# Altium footprint library AB-Amplifier.PcbLib: 13 footprints
Each footprint in its own frame and in the unit in brackets; x right, y up, seen from the top. Pads: shape width x height; smd on the part's side, far side on the other; paste and mask are expansions set on the pad; w line width, h text height; cw(c..) or ccw(c..) is an arc to the next point about the centre after c.
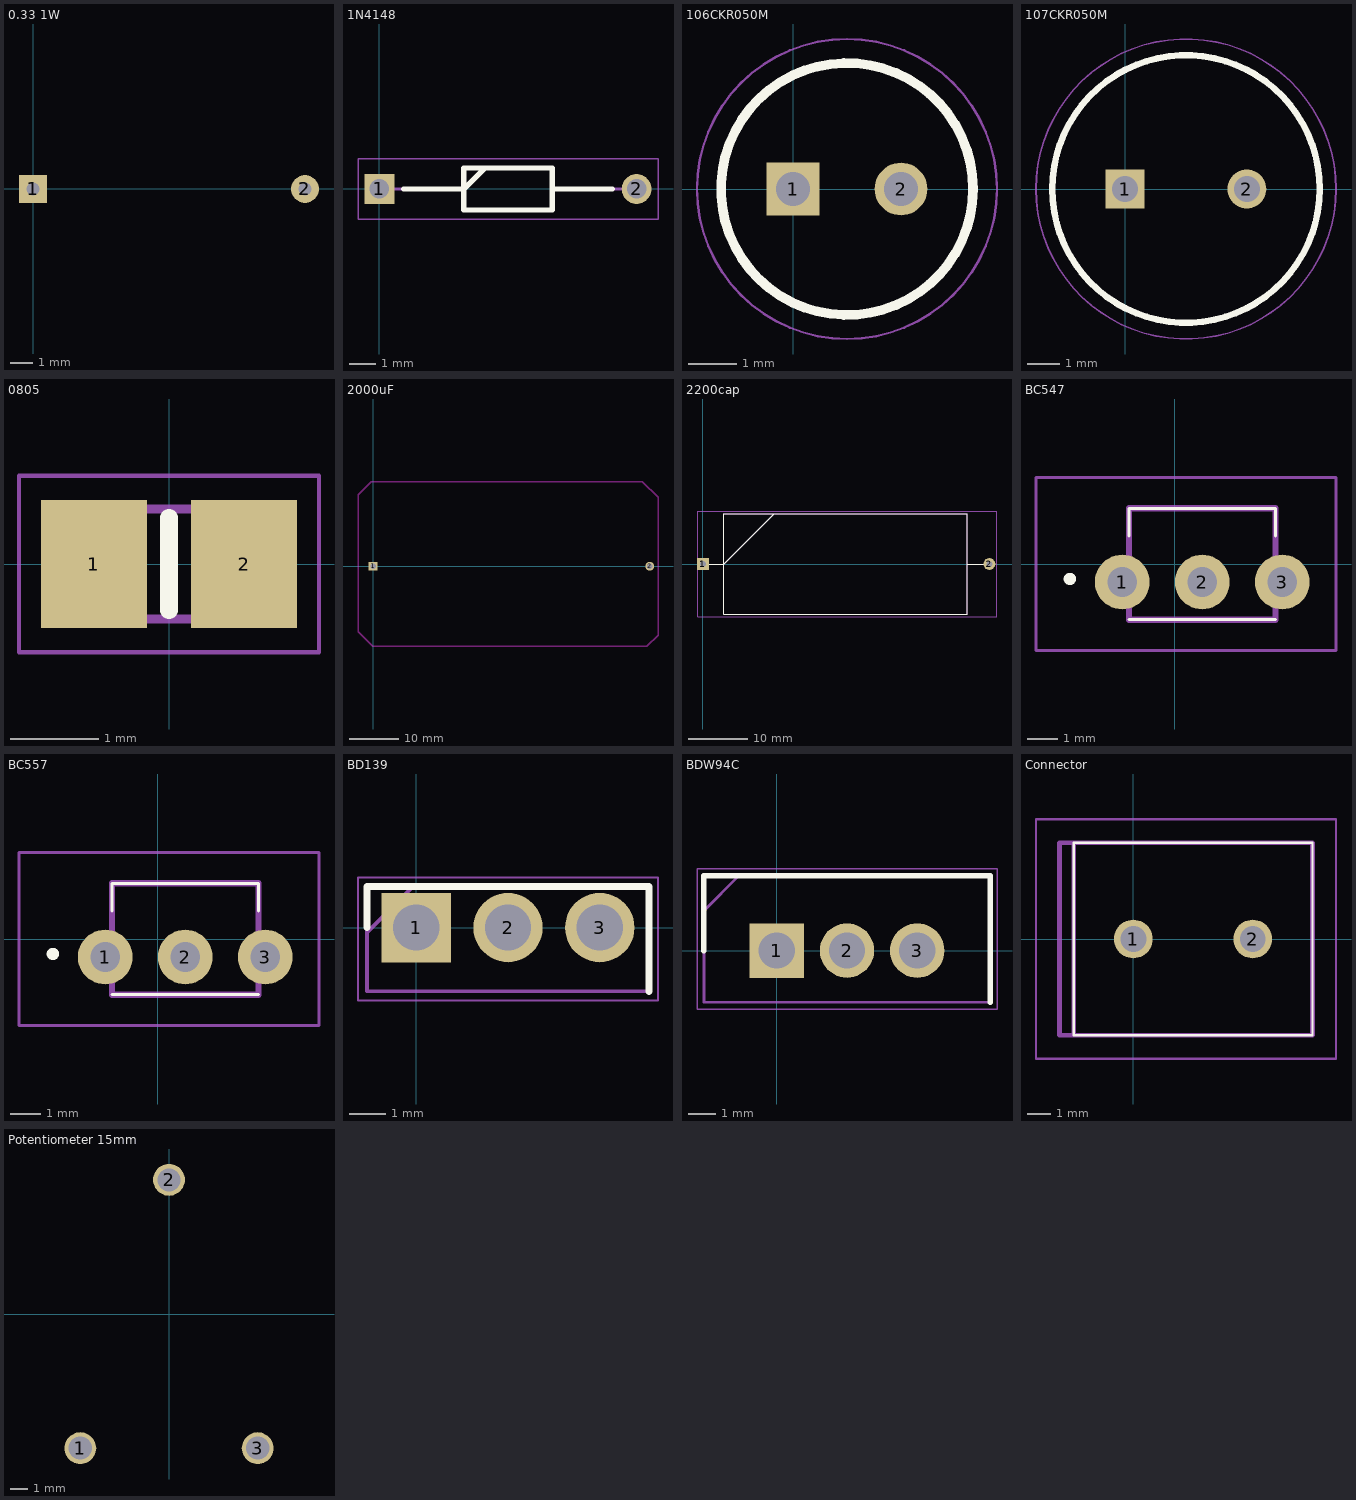
[diagram p0: the footprints below, top view; thin cyan lines are the x and y axes]

## 0.33 1W [mm]
pads (2):
  rect 1.27x1.27 hole 0.6: 1(0,0)
  round 1.27 hole 0.6: 2(12.319,0)
3D body: height 0.25, standoff 0, extent 1.143,-1.778 11.176,1.778

## 1N4148 [mm]
pads (2):
  rect 1.15x1.15 hole 0.75: 1(0,0)
  round 1.15 hole 0.75: 2(9.9,0)
Top Overlay:
  lines w0.2: 0.925,0 3.25,0 4.062,0.812 ; 6.65,0 8.975,0 ; 3.25,-0.812 3.25,0.812 6.65,0.812 6.65,-0.812 3.25,-0.812
Mechanical 13:
  lines w0.1: 0,0 3.25,0 4.062,0.812 ; 6.65,0 9.9,0 ; 3.25,-0.813 3.25,0.812 6.65,0.812 6.65,-0.813 3.25,-0.813
Mechanical 15:
  lines w0.05: -0.825,-1.163 -0.825,1.162 10.725,1.162 10.725,-1.163 -0.825,-1.163
3D body "1N4148-TAP.stp": height 1.75, standoff -1.75, extent -0.275,-0.869 10.175,0.869

## 106CKR050M [mm] "10uF"
pads (2):
  rect 1.1x1.1 hole 0.7: 1(0,0)
  round 1.1 hole 0.7: 2(2.25,0)
Top Overlay:
  circle w0.2: c1.125,0 r2.625
Mechanical 13:
  circle w0.1: c1.125,0 r2.625
Mechanical 15:
  circle w0.05: c1.125,0 r3.125
3D body "106CKR050M.stp": height 12.5, standoff -10, extent -1.613,-2.747 3.875,2.747

## 107CKR050M [mm] "100uF"
pads (2):
  rect 1.2x1.2 hole 0.8: 1(0,0)
  round 1.2 hole 0.8: 2(3.75,0)
Top Overlay:
  circle w0.2: c1.875,0 r4.125
Mechanical 13:
  circle w0.1: c1.875,0 r4.125
Mechanical 15:
  circle w0.05: c1.875,0 r4.625
3D body "107CKR050M.stp": height 13, standoff -10, extent -2.363,-4.247 6.125,4.247

## 0805 [mm]
pads (2):
  rect 1.2x1.45 smd: 1(-0.85,0) 2(0.85,0)
Top Overlay:
  lines w0.2: 0,-0.525 0,0.525
Mechanical 13:
  lines w0.1: -1,-0.625 1,-0.625 1,0.625 -1,0.625 -1,-0.625
Mechanical 15:
  lines w0.05: -1.7,-1 1.7,-1 1.7,1 -1.7,1 -1.7,-1
3D body "ACML-0805-500-T.stp": height 1.05, standoff 0, extent -1,-0.625 1,0.625

## 2000uF [mil]
pads (2):
  rect 70x70 hole 45.28: 1(0,0)
  round 70 hole 45.28: 2(2190,0)
Top Layer keep-out:
  lines w10: -120,-520 -120,0 -120,565 -15,670 2130,670 2255,545 2255,-545 2165,-635 -5,-635 -120,-520
3D body: height 10, standoff 0, extent 40,-565 2145,565

## 2200cap [mm]
pads (2):
  rect 2x2 hole 1: 1(0,0)
  round 2 hole 1: 2(48.26,0)
Top Overlay:
  lines w0.2: 0,0 3.52,0 12.02,8.5 ; 44.52,0 48.26,0 ; 3.52,-8.5 3.52,8.5 44.52,8.5 44.52,-8.5 3.52,-8.5
Mechanical 13:
  lines w0.1: 0,0 3.52,0 12.02,8.5 ; 44.52,0 48.26,0 ; 3.52,-8.5 3.52,8.5 44.52,8.5 44.52,-8.5 3.52,-8.5
Mechanical 15:
  lines w0.05: -0.85,-8.85 -0.85,8.85 49.53,8.85 49.53,-8.85 -0.85,-8.85
3D body: height 0.25, standoff 0, extent 0,-8.995 48.26,8.995

## BC547 [mm]
pads (3):
  round 1.778 hole 0.96: 1(-1.7,-0.585) 2(0.9,-0.585) 3(3.5,-0.585)
Top Overlay:
  lines w0.1: -1.48,-1.81 3.28,-1.81 ; -1.48,0.915 -1.48,1.81 3.28,1.81 3.28,0.915
  lines w0.2: -3.4,-0.585 cw(c-3.4,-0.485) -3.4,-0.385 cw(c-3.4,-0.485) -3.4,-0.585
Mechanical 13:
  lines w0.2: -1.48,-1.81 3.28,-1.81 3.28,1.81 -1.48,1.81 -1.48,-1.81
Mechanical 15:
  lines w0.1: -4.5,-2.81 5.247,-2.81 5.247,2.81 -4.5,2.81 -4.5,-2.81
3D body "BC557ATA.stp": height 8.67, standoff -13.11, extent -2.2,-2.42 3.96,1.71

## BC557 [mm]
pads (3):
  round 1.778 hole 0.96: 1(-1.7,-0.585) 2(0.9,-0.585) 3(3.5,-0.585)
Top Overlay:
  lines w0.1: -1.48,-1.81 3.28,-1.81 ; -1.48,0.915 -1.48,1.81 3.28,1.81 3.28,0.915
  lines w0.2: -3.4,-0.585 ccw(c-3.4,-0.485) -3.4,-0.385 ccw(c-3.4,-0.485) -3.4,-0.585
Mechanical 13:
  lines w0.2: -1.48,-1.81 -1.48,1.81 3.28,1.81 3.28,-1.81 -1.48,-1.81
Mechanical 15:
  lines w0.1: -4.5,-2.81 -4.5,2.81 5.247,2.81 5.247,-2.81 -4.5,-2.81
3D body "BC557ATA.stp": height 8.67, standoff -13.11, extent -2.2,-2.42 3.96,1.71

## BD139 [mm]
pads (3):
  rect 1.92x1.92 hole 1.28: 1(0,0)
  round 1.92 hole 1.28: 2(2.54,0) 3(5.08,0)
Top Overlay:
  lines w0.2: -1.36,0 -1.36,1.135 6.44,1.135 6.44,-1.765
Mechanical 13:
  lines w0.1: -1.36,-0.135 -0.09,1.135 ; -1.36,-1.765 -1.36,1.135 6.44,1.135 6.44,-1.765 -1.36,-1.765
Mechanical 15:
  lines w0.05: -1.61,-2.015 -1.61,1.385 6.69,1.385 6.69,-2.015 -1.61,-2.015
3D body "BD139-10.stp": height 13.08, standoff -12.72, extent -1.16,-1.27 6.24,1.13

## BDW94C [mm]
pads (3):
  rect 1.98x1.98 hole 1.32: 1(0,0)
  round 1.98 hole 1.32: 2(2.55,0) 3(5.1,0)
Top Overlay:
  lines w0.2: -2.65,0 -2.65,2.72 7.75,2.72 7.75,-1.88
Mechanical 13:
  lines w0.1: -2.65,1.445 -1.375,2.72 ; -2.65,-1.88 -2.65,2.72 7.75,2.72 7.75,-1.88 -2.65,-1.88
Mechanical 15:
  lines w0.05: -2.9,-2.13 -2.9,2.97 8,2.97 8,-2.13 -2.9,-2.13
3D body "BDW94C.stp": height 20.08, standoff -18.2, extent -2.55,-1.88 7.65,2.72

## Connector [mm]
pads (2):
  round 1.65 hole 1.1: 1(0,0) 2(5.08,0)
Top Overlay:
  lines w0.1: -2.54,-4.1 7.62,-4.1 7.62,4.1 -2.54,4.1 -2.54,-4.1
Mechanical 13:
  lines w0.2: -2.54,-4.1 7.62,-4.1 7.62,4.1 -2.54,4.1 ; -2.54,-4.1 -2.54,4.1 ; -2.54,-4.1 -2.54,4.1 ; -2.54,-4.1 -3.14,-4.1 -3.14,4.1 -2.54,4.1
Mechanical 15:
  lines w0.1: -4.14,-5.1 8.62,-5.1 8.62,5.1 -4.14,5.1 -4.14,-5.1
3D body "282837-2.stp": height 9.84, standoff -3.66, extent -2.51,-4.11 8.25,4.09

## Potentiometer 15mm [mil]
pads (3):
  round 70 hole 51.18: 1(-195,-295) 2(0,295) 3(195,-295)
3D body: height 10, standoff 0, extent -320,-348.75 320,345